# Altium footprint library SO-14.PcbLib: 1 footprints
Each footprint in its own frame and in the unit in brackets; x right, y up, seen from the top. Pads: shape width x height; smd on the part's side, far side on the other; paste and mask are expansions set on the pad; w line width, h text height; cw(c..) or ccw(c..) is an arc to the next point about the centre after c.
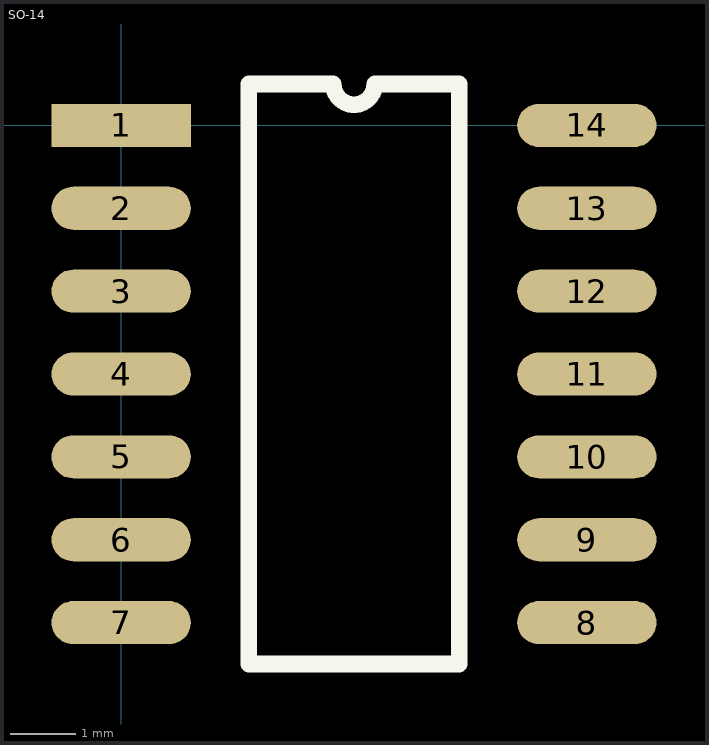
[diagram p0: the footprint, top view; thin cyan lines are the x and y axes]

## SO-14 [mil]
pads (14):
  rect 84x26 smd: 1(0,0)
  oval 84x26 smd: 2(0,-50) 3(0,-100) 4(0,-150) 5(0,-200) 6(0,-250) 7(0,-300) 8(281,-300) 9(281,-250) 10(281,-200) 11(281,-150) 12(281,-100) 13(281,-50) 14(281,0)
Top Overlay:
  lines w10: 77,-325 77,25 128,25 ccw(c140.5,25) 153,25 204,25 204,-325 77,-325
3D body: height 83, standoff 0, extent 35,-345 245,50